# EAGLE library part VREF3220 (library texas)
VOLTAGE REFERENCE
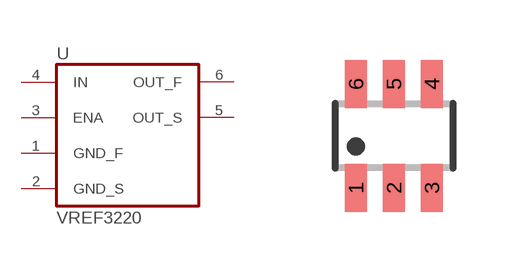
[diagram p95: symbol with the pads of SOT23-6; footprint SOT23-6]

Designator prefix U

## VREF3220  [SOT23-6]
1  GND_F  pas
2  GND_S  pas
3  ENA  in
4  IN  in
5  OUT_S  pas
6  OUT_F  pas

## Footprint SOT23-6 (pad centres in mm)
SOT-23 - DBV 0.95 mm pitch
smd 0.55 x 1.2: 1 -0.95,-1.3; 2 0,-1.3; 3 0.95,-1.3; 4 0.95,1.3; 5 0,1.3; 6 -0.95,1.3